# Altium footprint library Mechanical.PcbLib: 50 footprints (part 2 of 4)
Each footprint in its own frame and in the unit in brackets; x right, y up, seen from the top. Pads: shape width x height; smd on the part's side, far side on the other; paste and mask are expansions set on the pad; w line width, h text height; cw(c..) or ccw(c..) is an arc to the next point about the centre after c.
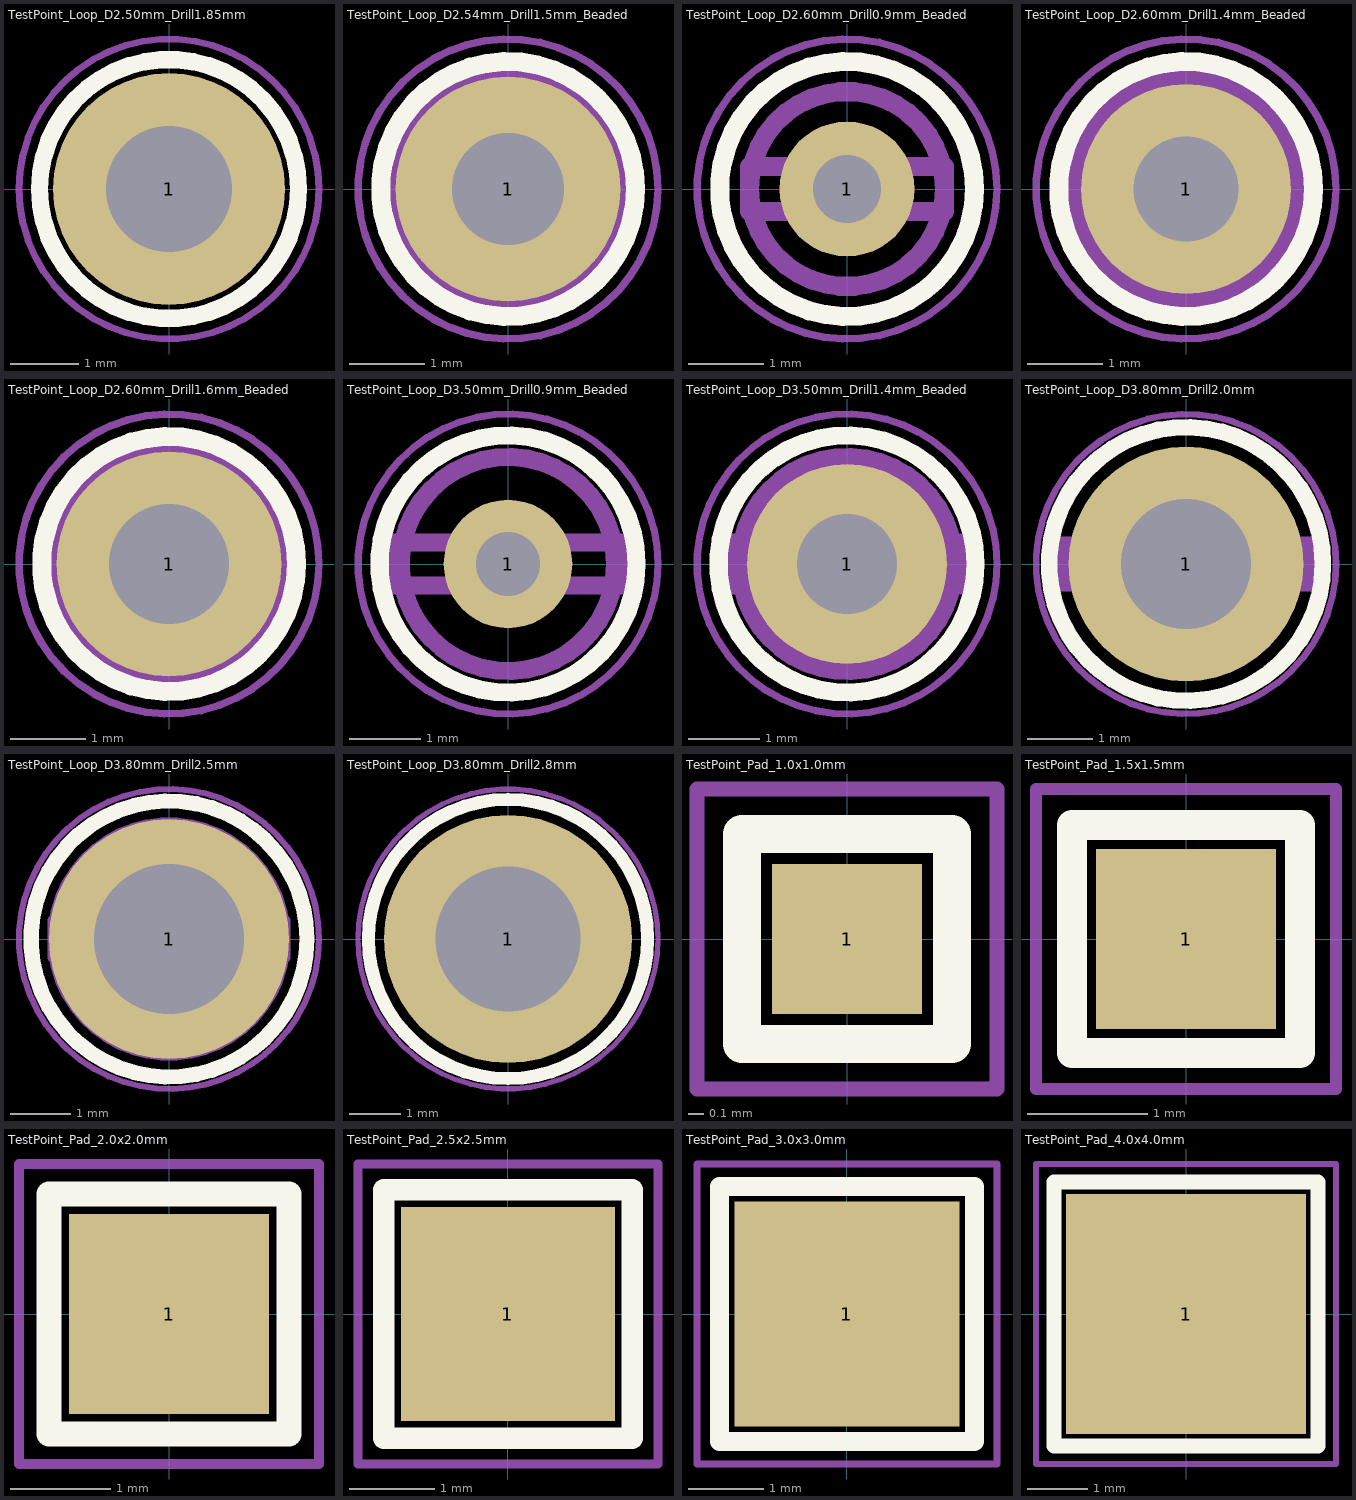
[diagram p1: the footprints below, top view; thin cyan lines are the x and y axes]

## TestPoint_Loop_D2.50mm_Drill1.85mm [mm] "wire loop as test point, loop diameter 2.5mm, hole diameter 1.85mm"
pads (1):
  round 3.4 hole 1.85: 1(0,0)
Top Overlay:
  circle w0.254: c0,0 r1.9
Top Assembly:
  circle w0.254: c0,0 r1.3
Top Component Outline:
  lines w0.25: -1.3,-0.3 -1.3,0.3 1.3,0.3 1.3,-0.3 -1.3,-0.3
Top Courtyard:
  circle w0.1: c0,0 r2.2
Top Designator:
  text ".Designator" at -7.63,-0.521 h1.52
3D body "TestPoint_Loop_D2.50mm_Drill1.85mm.step": height 6.15, standoff -3, extent -1.249,-0.25 1.248,0.25

## TestPoint_Loop_D2.54mm_Drill1.5mm_Beaded [mm] "wire loop with bead as test point, loop diameter2.548mm, hole diameter 1.5mm"
pads (1):
  round 3 hole 1.5: 1(0,0)
Top Overlay:
  circle w0.254: c0,0 r1.7
Top Assembly:
  circle w0.254: c0,0 r1.5
Top Component Outline:
  lines w0.25: -1.3,-0.3 -1.3,0.3 1.3,0.3 1.3,-0.3 -1.3,-0.3
Top Courtyard:
  circle w0.1: c0,0 r2
Top Designator:
  text ".Designator" at -7.63,-0.521 h1.52
3D body "TestPoint_Loop_D2.54mm_Drill1.5mm_Beaded.step": height 6.15, standoff -3, extent -1.488,-1.497 1.5,1.497

## TestPoint_Loop_D2.60mm_Drill0.9mm_Beaded [mm] "wire loop with bead as test point, loop diameter2.6mm, hole diameter 0.9mm"
pads (1):
  round 1.8 hole 0.9: 1(0,0)
Top Overlay:
  circle w0.254: c0,0 r1.7
Top Assembly:
  circle w0.254: c0,0 r1.3
Top Component Outline:
  lines w0.25: -1.3,-0.3 1.3,-0.3 1.3,0.3 -1.3,0.3 -1.3,-0.3
Top Courtyard:
  circle w0.1: c0,0 r2
Top Designator:
  text ".Designator" at -7.63,-0.521 h1.52
3D body "TestPoint_Loop_D2.60mm_Drill0.9mm_Beaded.step": height 6.17, standoff -3, extent -1.488,-1.497 1.5,1.497

## TestPoint_Loop_D2.60mm_Drill1.4mm_Beaded [mm] "wire loop with bead as test point, loop diameter2.6mm, hole diameter 1.4mm"
pads (1):
  round 2.8 hole 1.4: 1(0,0)
Top Overlay:
  circle w0.254: c0,0 r1.7
Top Assembly:
  circle w0.254: c0,0 r1.5
Top Component Outline:
  lines w0.25: -1.3,-0.3 -1.3,0.3 1.3,0.3 1.3,-0.3 -1.3,-0.3
Top Courtyard:
  circle w0.1: c0,0 r2
Top Designator:
  text ".Designator" at -7.63,-0.521 h1.52
3D body "TestPoint_Loop_D2.60mm_Drill1.4mm_Beaded.step": height 5, standoff -3, extent -1.488,-1.497 1.5,1.497

## TestPoint_Loop_D2.60mm_Drill1.6mm_Beaded [mm] "wire loop with bead as test point, loop diameter2.6mm, hole diameter 1.6mm"
pads (1):
  round 3 hole 1.6: 1(0,0)
Top Overlay:
  circle w0.254: c0,0 r1.7
Top Assembly:
  circle w0.254: c0,0 r1.5
Top Component Outline:
  lines w0.25: -1.3,-0.3 -1.3,0.3 1.3,0.3 1.3,-0.3 -1.3,-0.3
Top Courtyard:
  circle w0.1: c0,0 r2
Top Designator:
  text ".Designator" at -7.63,-0.521 h1.52
3D body "TestPoint_Loop_D2.60mm_Drill1.6mm_Beaded.step": height 4.9, standoff -3, extent -1.6,-1.597 1.6,1.597

## TestPoint_Loop_D3.50mm_Drill0.9mm_Beaded [mm] "wire loop with bead as test point, loop diameter2.6mm, hole diameter 0.9mm"
pads (1):
  round 1.8 hole 0.9: 1(0,0)
Top Overlay:
  circle w0.254: c0,0 r1.8
Top Assembly:
  circle w0.254: c0,0 r1.5
Top Component Outline:
  lines w0.25: -1.6,-0.3 -1.6,0.3 1.6,0.3 1.6,-0.3 -1.6,-0.3
Top Courtyard:
  circle w0.1: c0,0 r2.1
Top Designator:
  text ".Designator" at -7.63,-0.521 h1.52
3D body "TestPoint_Loop_D3.50mm_Drill0.9mm_Beaded.step": height 6.67, standoff -3, extent -1.75,-1.497 1.749,1.497

## TestPoint_Loop_D3.50mm_Drill1.4mm_Beaded [mm] "wire loop with bead as test point, loop diameter 3.5mm, hole diameter 1.4mm"
pads (1):
  round 2.8 hole 1.4: 1(0,0)
Top Overlay:
  circle w0.254: c0,0 r1.8
Top Assembly:
  circle w0.254: c0,0 r1.5
Top Component Outline:
  lines w0.25: -1.6,-0.3 1.6,-0.3 1.6,0.3 -1.6,0.3 -1.6,-0.3
Top Courtyard:
  circle w0.1: c0,0 r2.1
Top Designator:
  text ".Designator" at -7.63,-0.521 h1.52
3D body "TestPoint_Loop_D3.50mm_Drill1.4mm_Beaded.step": height 5.35, standoff -3, extent -1.75,-1.497 1.748,1.497

## TestPoint_Loop_D3.80mm_Drill2.0mm [mm] "wire loop as test point, loop diameter 3.8mm, hole diameter 2.0mm"
pads (1):
  round 3.6 hole 2: 1(0,0)
Top Overlay:
  circle w0.254: c0,0 r2.1
Top Assembly:
  circle w0.254: c0,0 r1.5
Top Component Outline:
  lines w0.25: -1.9,-0.3 1.9,-0.3 1.9,0.3 -1.9,0.3 -1.9,-0.3
Top Courtyard:
  circle w0.1: c0,0 r2.3
Top Designator:
  text ".Designator" at -7.63,-0.521 h1.52
3D body "TestPoint_Loop_D3.80mm_Drill2.0mm.step": height 7.45, standoff -3, extent -1.899,-0.25 1.898,0.25

## TestPoint_Loop_D3.80mm_Drill2.5mm [mm] "wire loop as test point, loop diameter 3.8mm, hole diameter 2.5mm"
pads (1):
  round 4 hole 2.5: 1(0,0)
Top Overlay:
  circle w0.254: c0,0 r2.3
Top Assembly:
  circle w0.254: c0,0 r1.9
Top Component Outline:
  lines w0.25: -1.9,-0.3 1.9,-0.3 1.9,0.3 -1.9,0.3 -1.9,-0.3
Top Courtyard:
  circle w0.1: c0,0 r2.5
Top Designator:
  text ".Designator" at -7.63,-0.521 h1.52
3D body "TestPoint_Loop_D3.80mm_Drill2.5mm.step": height 7.45, standoff -3, extent -1.899,-0.25 1.898,0.25

## TestPoint_Loop_D3.80mm_Drill2.8mm [mm] "wire loop as test point, loop diameter 3.8mm, hole diameter 2.8mm"
pads (1):
  round 4.8 hole 2.8: 1(0,0)
Top Overlay:
  circle w0.254: c0,0 r2.7
Top Assembly:
  circle w0.254: c0,0 r1.9
Top Component Outline:
  lines w0.25: -1.9,-0.3 1.9,-0.3 1.9,0.3 -1.9,0.3 -1.9,-0.3
Top Courtyard:
  circle w0.1: c0,0 r2.9
Top Designator:
  text ".Designator" at -7.63,-0.521 h1.52
3D body "TestPoint_Loop_D3.80mm_Drill2.8mm.step": height 7.45, standoff -3, extent -1.899,-0.25 1.898,0.25

## TestPoint_Pad_1.0x1.0mm [mm] "SMD rectangular pad as test Point, square 1.0mm side length"
pads (1):
  rect 1x1 smd: 1(0,0)
Top Overlay:
  lines w0.254: -0.7,-0.7 0.7,-0.7 0.7,0.7 -0.7,0.7 -0.7,-0.7
Top Courtyard:
  lines w0.1: -1,-1 1,-1 1,1 -1,1 -1,-1
Top Designator:
  text ".Designator" at -7.63,-0.521 h1.52

## TestPoint_Pad_1.5x1.5mm [mm] "SMD rectangular pad as test Point, square 1.5mm side length"
pads (1):
  rect 1.5x1.5 smd: 1(0,0)
Top Overlay:
  lines w0.254: -0.95,-0.95 0.95,-0.95 0.95,0.95 -0.95,0.95 -0.95,-0.95
Top Courtyard:
  lines w0.1: -1.25,-1.25 1.25,-1.25 1.25,1.25 -1.25,1.25 -1.25,-1.25
Top Designator:
  text ".Designator" at -7.63,-0.521 h1.52

## TestPoint_Pad_2.0x2.0mm [mm] "SMD rectangular pad as test Point, square 2.0mm side length"
pads (1):
  rect 2x2 smd: 1(0,0)
Top Overlay:
  lines w0.254: -1.2,-1.2 1.2,-1.2 1.2,1.2 -1.2,1.2 -1.2,-1.2
Top Courtyard:
  lines w0.1: -1.5,-1.5 1.5,-1.5 1.5,1.5 -1.5,1.5 -1.5,-1.5
Top Designator:
  text ".Designator" at -7.63,-0.521 h1.52

## TestPoint_Pad_2.5x2.5mm [mm] "SMD rectangular pad as test Point, square 2.5mm side length"
pads (1):
  rect 2.5x2.5 smd: 1(0,0)
Top Overlay:
  lines w0.254: -1.45,-1.45 1.45,-1.45 1.45,1.45 -1.45,1.45 -1.45,-1.45
Top Courtyard:
  lines w0.1: -1.75,-1.75 1.75,-1.75 1.75,1.75 -1.75,1.75 -1.75,-1.75
Top Designator:
  text ".Designator" at -7.63,-0.521 h1.52

## TestPoint_Pad_3.0x3.0mm [mm] "SMD rectangular pad as test Point, square 3.0mm side length"
pads (1):
  rect 3x3 smd: 1(0,0)
Top Overlay:
  lines w0.254: -1.7,-1.7 1.7,-1.7 1.7,1.7 -1.7,1.7 -1.7,-1.7
Top Courtyard:
  lines w0.1: -2,-2 2,-2 2,2 -2,2 -2,-2
Top Designator:
  text ".Designator" at -7.63,-0.521 h1.52

## TestPoint_Pad_4.0x4.0mm [mm] "SMD rectangular pad as test Point, square 4.0mm side length"
pads (1):
  rect 4x4 smd: 1(0,0)
Top Overlay:
  lines w0.254: -2.2,-2.2 2.2,-2.2 2.2,2.2 -2.2,2.2 -2.2,-2.2
Top Courtyard:
  lines w0.1: -2.5,-2.5 2.5,-2.5 2.5,2.5 -2.5,2.5 -2.5,-2.5
Top Designator:
  text ".Designator" at -7.63,-0.521 h1.52